# EAGLE library part CS3310-KSZ (library Cirrus_Logic_By_element14_Batch_1)
Stereo Digital Volume Control
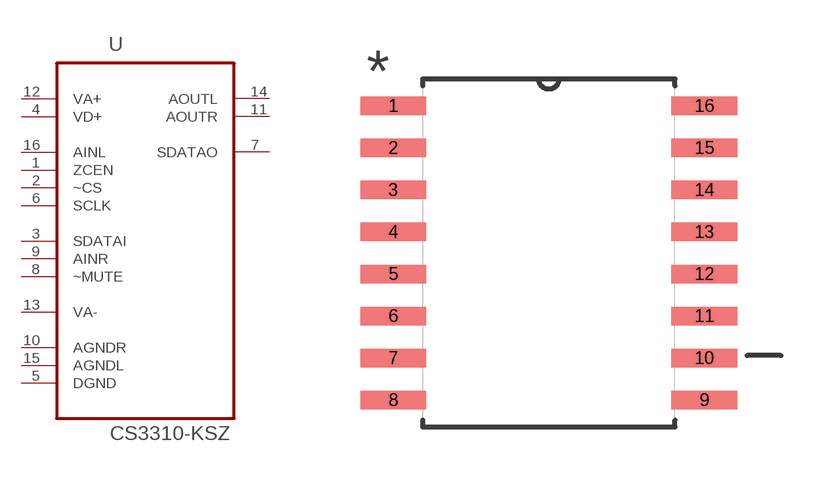
[diagram p0: symbol with the pads of SOIC127P1032X265-16N; footprint SOIC127P1032X265-16N]

Designator prefix U

## CS3310-KSZ (DESCRIPTION: Stereo Digital Volume Control; MPN: CS3310-KSZ; OC_FARNELL: 1023353; OC_NEWARK: 72J5420; PACKAGE: SOIC-16; SUPPLIER: CIRRUS LOGIC)  [SOIC127P1032X265-16N]
1  ZCEN  in
2  ~CS  in
3  SDATAI  in
4  VD+  pwr
5  DGND  pas
6  SCLK  in
7  SDATAO
8  ~MUTE  in
9  AINR  in
10  AGNDR  pas
11  AOUTR  out
12  VA+  pwr
13  VA-  pwr
14  AOUTL  out
15  AGNDL  pas
16  AINL  in

## Footprint SOIC127P1032X265-16N (pad centres in mm)
smd 1.981 x 0.559: 1 -4.699,4.445; 2 -4.699,3.175; 3 -4.699,1.905; 4 -4.699,0.635; 5 -4.699,-0.635; 6 -4.699,-1.905; 7 -4.699,-3.175; 8 -4.699,-4.445; 9 4.699,-4.445; 10 4.699,-3.175; 11 4.699,-1.905; 12 4.699,-0.635; 13 4.699,0.635; 14 4.699,1.905; 15 4.699,3.175; 16 4.699,4.445